# Altium footprint library Capacitor.PcbLib: 39 footprints (part 3 of 3)
Each footprint in its own frame and in the unit in brackets; x right, y up, seen from the top. Pads: shape width x height; smd on the part's side, far side on the other; paste and mask are expansions set on the pad; w line width, h text height; cw(c..) or ccw(c..) is an arc to the next point about the centre after c.
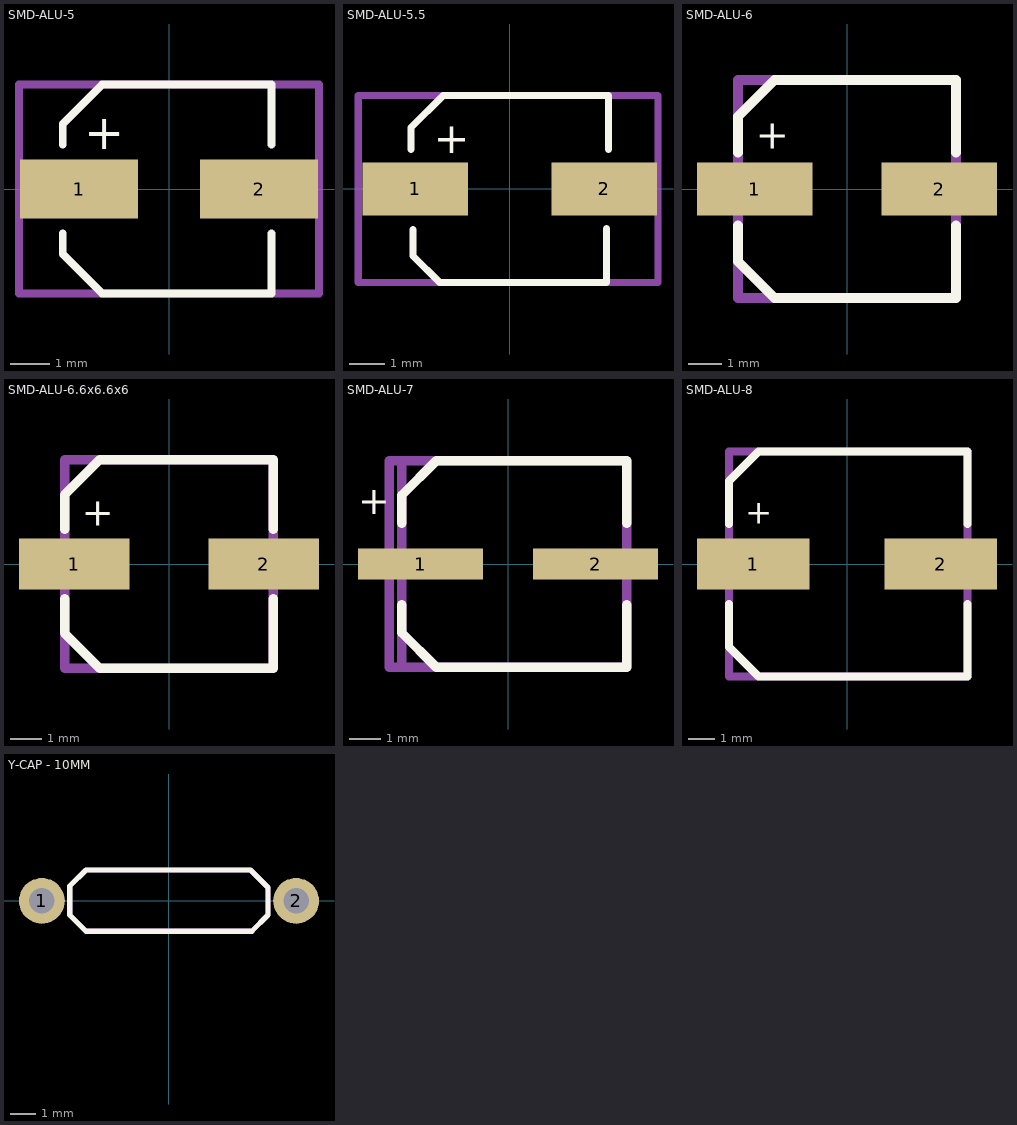
[diagram p2: the footprints below, top view; thin cyan lines are the x and y axes]

## SMD-ALU-5 [mm]
pads (2):
  rect 3x1.5 smd: 1(-2.286,0) 2(2.286,0)
Top Overlay:
  lines w0.2: -2.7,-1.126 -2.7,-1.65 -1.7,-2.65 2.6,-2.65 2.6,-1.126 ; -2.7,1.126 -2.7,1.65 -1.7,2.65 2.6,2.65 2.6,1.126
  text "+" at -2.159,1.016 h0.89
Mechanical 13:
  lines w0.2: -3.81,-2.65 3.81,-2.65 3.81,0.084 3.81,2.65 -3.81,2.65 -3.81,-0.458 -3.81,-2.65
  text ".Designator" at -3.556,-0.381 h1.5
Mechanical 15:
  lines w0.2: -3.81,-2.65 -3.81,-0.458 -3.81,2.65 3.81,2.65 3.81,0.084 3.81,-2.65 -3.81,-2.65
  text ".Comment" at -3.556,-0.508 h1.5
3D body "User Library-ALU-C.STEP": height 5.41, standoff 0, extent -2.95,-2.65 2.95,2.65

## SMD-ALU-5.5 [mm]
pads (2):
  rect 3x1.5 smd: 1(-2.68,0) 2(2.68,0)
Top Overlay:
  lines w0.2: -2.8,1.126 -2.8,1.75 -1.9,2.65 2.8,2.65 2.8,1.126 ; -2.75,-1.15 -2.75,-1.9 -2,-2.65 2.75,-2.65 2.75,-1.126
  text "+" at -2.159,1.016 h0.89
Mechanical 13:
  lines w0.2: -4.3,-2.65 -4.3,-0.458 -4.3,2.65 4.21,2.65 4.21,0.084 4.21,-2.65 -4.3,-2.65
  text ".Designator" at -3.556,-0.381 h1.5
Mechanical 15:
  lines w0.2: -4.31,-2.65 4.21,-2.65 4.21,0.084 4.21,2.65 -4.31,2.65 -4.31,-0.458 -4.31,-2.65
  text ".Comment" at -3.556,-0.508 h1.5
3D body "CAP_EEE_C.stp": height 5.56, standoff 0, extent -3.251,-2.756 3.251,2.756

## SMD-ALU-6 [mm]
pads (2):
  rect 3.5x1.6 smd: 1(-2.793,0) 2(2.793,0)
Top Overlay:
  lines w0.3: -3.3,-1.1 -3.3,-2.2 -2.2,-3.3 3.3,-3.3 3.3,-1.1 ; -3.3,1.1 -3.3,2.2 -2.2,3.3 -2,3.3 3.3,3.3 3.3,1.1
  text "+" at -2.759,1.216 h0.89
Mechanical 13:
  lines w0.3: -3.3,-3.3 -3.3,3.3 3.3,3.3 3.3,-3.3 -3.3,-3.3
  text ".Designator" at -1.4,-0.3 h1.2
Mechanical 15:
  lines w0.3: -3.3,-3.3 3.3,-3.3 3.3,3.3 -3.3,3.3 -3.3,-3.3
  text ".Comment" at -1.4,-0.3 h1.2
3D body "CAPAE660X790D660L110X65.STEP": height 7.9, standoff 0, extent -3.3,-3.3 3.3,3.3

## SMD-ALU-6.6x6.6x6 [mm]
pads (2):
  rect 3.5x1.6 smd: 1(-3,0) 2(3,0)
Top Overlay:
  lines w0.3: -3.3,-1.1 -3.3,-2.2 -2.2,-3.3 3.3,-3.3 3.3,-1.1 ; -3.3,1.1 -3.3,2.2 -2.2,3.3 -2,3.3 3.3,3.3 3.3,1.1
  text "+" at -2.759,1.216 h0.89
Mechanical 13:
  lines w0.3: -3.3,-3.3 3.3,-3.3 3.3,3.3 -3.3,3.3 -3.3,-3.3
  text ".Designator" at -1.4,-0.3 h1.2
Mechanical 15:
  lines w0.3: -3.3,-3.3 -3.3,3.3 3.3,3.3 3.3,-3.3 -3.3,-3.3
  text ".Comment" at -1.4,-0.3 h1.2
3D body "CAPAE6866X65M.step": height 6.5, standoff 0, extent -3.4,-3.3 3.4,3.3

## SMD-ALU-7 [mm]
pads (2):
  rect 4x1 smd: 1(-2.8,0) 2(2.8,0)
Top Overlay:
  lines w0.3: -3.4,-1.3 -3.4,-2.2 -2.3,-3.3 3.8,-3.3 3.8,-1.3 ; -3.4,1.3 -3.4,2.2 -2.3,3.3 3.8,3.3 3.8,1.3
  text "+" at -4.8,1.6 h0.89
Mechanical 13:
  lines w0.3: -3.4,-3.3 3.8,-3.3 3.8,3.3 -3.4,3.3 -3.4,-3.3
  text ".Designator" at -2.107,-0.3 h1.2
Mechanical 15:
  lines w0.3: -3.8,-3.3 -3.8,3.3 3.8,3.3 3.8,-3.3 -3.8,-3.3
  text ".Comment" at -2.107,-0.3 h1.2
3D body "EDK226M050A9HAA.step": height 7.91, standoff -0.1, extent -3.8,-3.4 3.8,3.4

## SMD-ALU-8 [mm]
pads (2):
  rect 4.2x1.9 smd: 1(-3.5,0) 2(3.5,0)
Top Overlay:
  lines w0.3: -4.4,-1.5 -4.4,-3.1 -3.3,-4.2 4.5,-4.2 4.5,-1.5 ; -4.4,1.5 -4.4,3.1 -3.3,4.2 4.5,4.2 4.5,1.5
  text "+" at -3.8,1.5 h0.89
Mechanical 13:
  lines w0.3: -4.4,-4.2 -4.4,4.2 4.5,4.2 4.5,-4.2 -4.4,-4.2
  text ".Designator" at -2.107,-0.3 h1.2
Mechanical 15:
  lines w0.3: -4.4,-4.2 4.5,-4.2 4.5,4.2 -4.4,4.2 -4.4,-4.2
  text ".Comment" at -2.107,-0.3 h1.2
3D body "CAPAE830X1050D830L395X90.STEP": height 10.5, standoff 0, extent -5.475,-4.15 5.475,4.15

## Y-CAP - 10MM [mm]
pads (2):
  round 1.8 hole 1: 1(-5,0) 2(5,0)
Top Overlay:
  lines w0.2: -3.904,-0.559 -3.904,0.584 -3.269,1.219 ; 3.255,-1.194 3.89,-0.559 3.89,0.529
  lines w0.203: -3.904,-0.559 -3.269,-1.194 3.255,-1.194 ; -3.269,1.219 3.2,1.219 3.89,0.529
Mechanical 15:
  lines w0.203: -3.904,-0.559 -3.904,-0.051 -3.904,0.584 -3.269,1.219 3.2,1.219 3.89,0.529 3.89,-0.559 3.255,-1.194 -3.269,-1.194 -3.904,-0.559
Mechanical 29:
  text ".Designator" at -2.921,-0.508 h1.02
3D body "User Library-Y2222.STEP": height 8.1, standoff -3.5, extent -4.205,-2.745 4.205,2.746